# Altium footprint library adafruit.PCBLIB: 624 footprints (part 30 of 39)
Each footprint in its own frame and in the unit in brackets; x right, y up, seen from the top. Pads: shape width x height; smd on the part's side, far side on the other; paste and mask are expansions set on the pad; w line width, h text height; cw(c..) or ccw(c..) is an arc to the next point about the centre after c.
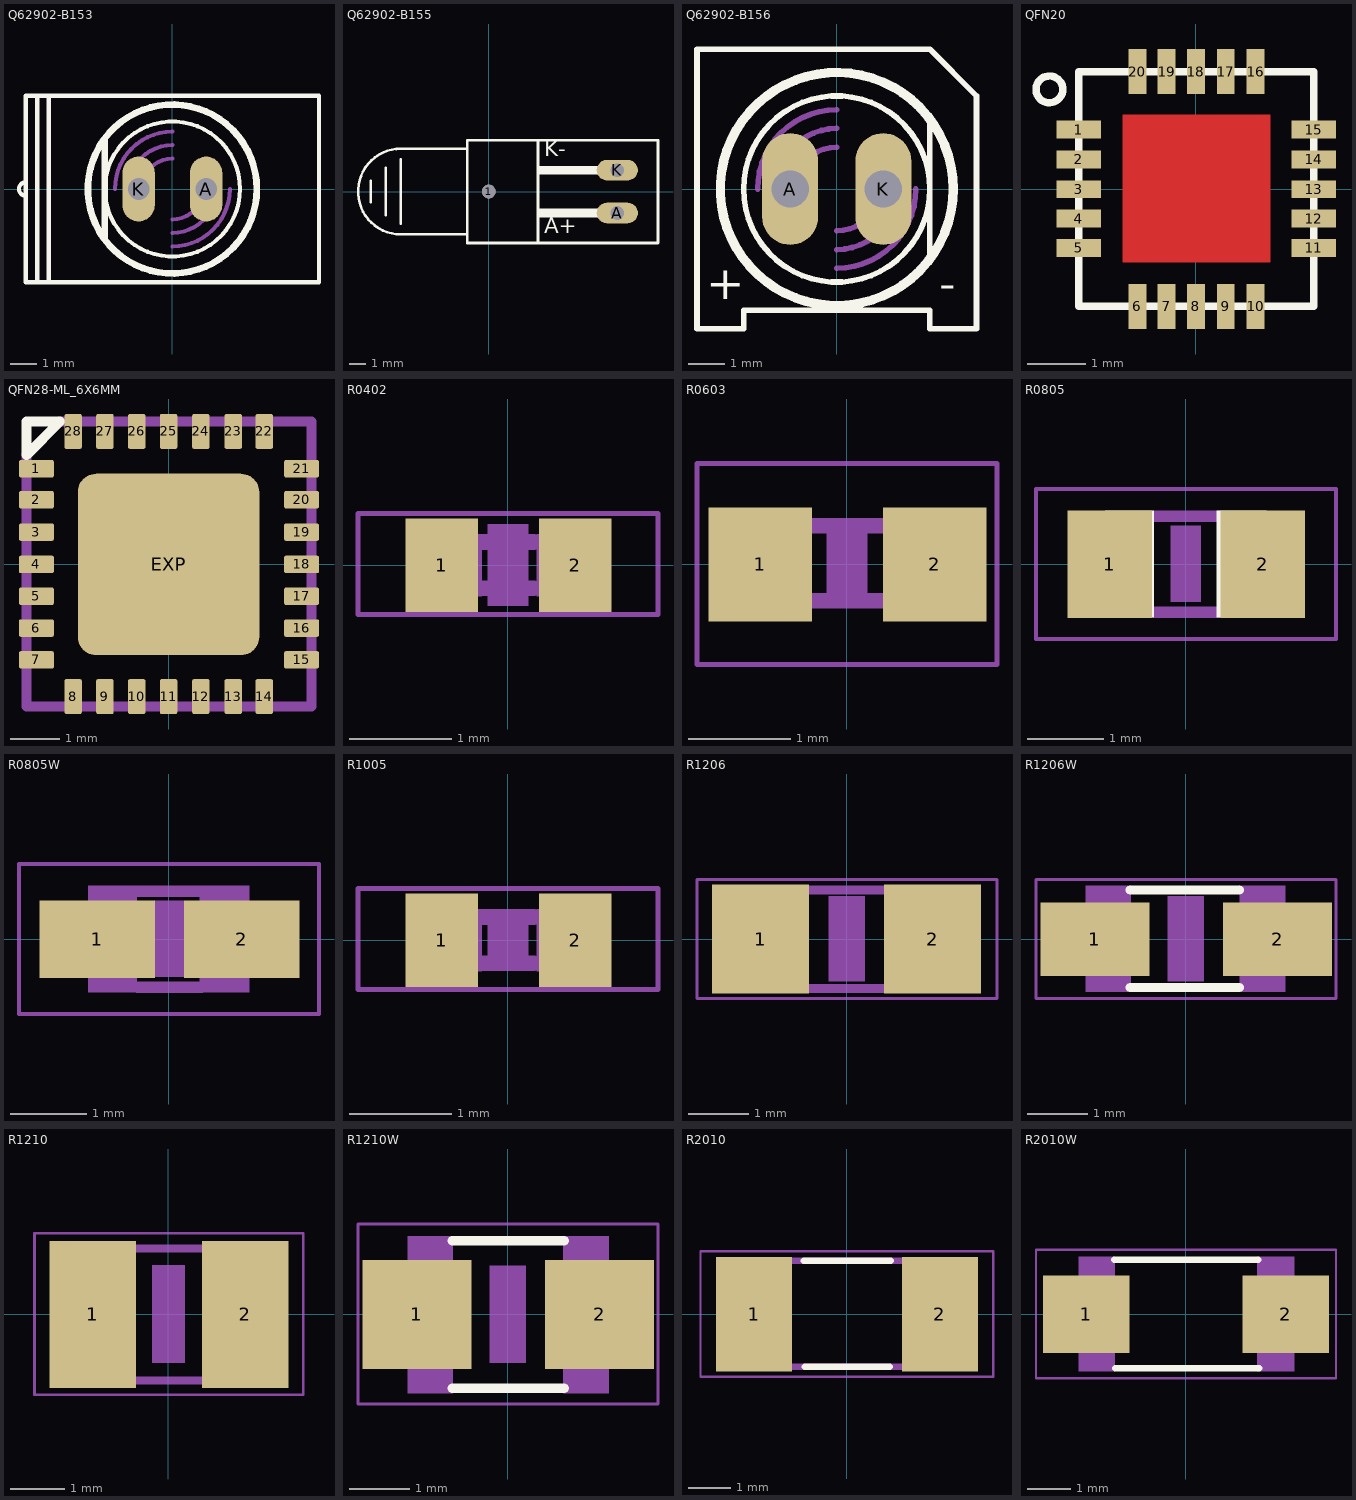
[diagram p29: the footprints below, top view; thin cyan lines are the x and y axes]

## Q62902-B153 [mil]
pads (2):
  oval 48x96 hole 32: A(50,0) K(-50,0)
Top Overlay:
  circle w6: c0,0 r100
  circle w10: c0,0 r125
  lines w6: -217,-10 cw(c-217,0) -217,10 ; -200,-138 -183,-138 ; -200,-138 -200,138 ; -200,-138 -217,-138 -217,138 -200,138 ; -200,138 -183,138 ; -183,-138 217,-138 217,138 -183,138 ; -183,-138 -183,138
  lines w10: -100,-75 -100,75
Mechanical 16:
  lines w6: -85,0 cw(c0,0) 0,85 ; -65,0 cw(c0,0) 0,65 ; -45,0 cw(c0,0) 0,45 ; 0,-85 ccw(c0,0) 85,0 ; 0,-65 ccw(c0,0) 65,0 ; 0,-45 ccw(c0,0) 45,0

## Q62902-B155 [mil]
pads (3):
  round 32 hole 32: 1(0,0)
  oval 96x48 hole 32: A(300,-50) K(300,50)
Top Overlay:
  rectangle: 115,40 265,60
  rectangle: 115,-60 265,-40
  lines w6: -275,-25 -275,25 ; -240,-55 -240,55 ; -205,-75 -205,75 ; -50,-100 -50,-120 115,-120 ; -50,-100 -205,-100 cw(c-205,0) -205,100 -50,100 ; -50,-100 -50,100 ; -50,100 -50,120 115,120 ; 115,-120 115,120 ; 115,-120 395,-120 395,120 115,120
  text "A+" at 130,-110 h62
  text "K-" at 130,70 h62

## Q62902-B156 [mil]
pads (2):
  oval 60x120 hole 40: A(-50,0) K(50,0)
Top Overlay:
  circle w6: c0,0 r100
  circle w10: c0,0 r125
  lines w6: 100,-75 100,75 ; -150,-150 -150,150 100,150 150,100 150,-150 100,-150 100,-130 -100,-130 -100,-150 -150,-150
  text "+" at -140,-130 h62
  text "-" at 110,-130 h62
Mechanical 16:
  lines w6: -85,0 cw(c0,0) 0,85 ; -65,0 cw(c0,0) 0,65 ; -45,0 cw(c0,0) 0,45 ; 0,-85 ccw(c0,0) 85,0 ; 0,-65 ccw(c0,0) 65,0 ; 0,-45 ccw(c0,0) 45,0

## QFN20 [mil]
pads (20):
  rect 30x12 smd: 1(-78.74,40) 2(-78.74,20) 3(-78.74,0) 4(-78.74,-19.68) 5(-78.74,-39.37) 11(79,-39.37) 12(79,-19.68) 13(79,0) 14(79,20) 15(79,40)
  rect 12x30 smd: 6(-39.37,-78.74) 7(-19.68,-78.74) 8(0,-78.74) 9(20,-78.74) 10(40,-78.74) 16(40,79) 17(20,79) 18(0,79) 19(-19.68,79) 20(-39.37,79)
Top Layer:
  rectangle: -49.21,-49.21 50,50
Top Overlay:
  circle w5: c-98.43,67 r9
  lines w5: -78.74,-78.74 79,-78.74 79,79 -78.74,79 -78.74,-78.74
Top Paste:
  rectangle: -47.24,16 -15.75,48
  rectangle: 16,16 48,48
  rectangle: 16,-47.24 48,-15.75
  rectangle: -47.24,-47.24 -15.75,-15.75
Top Solder:
  rectangle: -51.18,-51.18 52,52

## QFN28-ML_6X6MM [mil]
pads (29):
  rrect20% 28x14 smd: 1(-106.3,77) 2(-106.3,52) 3(-106.3,26) 4(-106.3,0) 5(-106.3,-25.59) 6(-106.3,-51.18) 7(-106.3,-76.77) 15(107,-76.77) 16(107,-51.18) 17(107,-25.59) 18(107,0) 19(107,26) 20(107,52) 21(107,77)
  rrect20% 14x28 smd: 8(-76.77,-106.3) 9(-51.18,-106.3) 10(-25.59,-106.3) 11(0,-106.3) 12(26,-106.3) 13(52,-106.3) 14(77,-106.3) 22(77,107) 23(52,107) 24(26,107) 25(0,107) 26(-25.59,107) 27(-51.18,107) 28(-76.77,107)
  rrect20% 146x146 smd: EXP(0,0)
Top Overlay:
  lines w8: -87.4,115 -87.4,115 ; -87.4,115 -114.11,115 -114.11,88 -87.4,115
Top Paste:
  rectangle: -119.76,71 -92.89,84
  rectangle: -119.76,45 -92.89,58
  rectangle: -119.76,20 -92.89,32
  rectangle: -119.76,-6.4 -92.89,7
  rectangle: -119.76,-31.99 -92.89,-19.19
  rectangle: -119.76,-57.58 -92.89,-44.78
  rectangle: -119.76,-83.17 -92.89,-70.37
  region: -70.37,-119.76 -70.37,-92.89 -83.17,-92.89 -83.17,-119.76
  region: -44.78,-119.76 -44.78,-92.89 -57.58,-92.89 -57.58,-119.76
  region: -19.19,-119.76 -19.19,-92.89 -31.99,-92.89 -31.99,-119.76
  region: 6.68,-120.04 6.68,-92.61 -6.11,-92.61 -6.11,-120.04
  region: 32.9,-119.83 32.9,-92.83 20.1,-92.83 20.1,-119.83
  region: 57.9,-119.83 57.9,-92.83 45.1,-92.83 45.1,-119.83
  region: 83.9,-119.83 83.9,-92.83 71.1,-92.83 71.1,-119.83
  region: 120,-70.37 93,-70.37 93,-83.17 120,-83.17
  region: 120,-44.78 93,-44.78 93,-57.58 120,-57.58
  region: 120,-19.19 93,-19.19 93,-31.99 120,-31.99
  region: 120,7 93,7 93,-6.4 120,-6.4
  region: 120,32 93,32 93,20 120,20
  region: 120,58 93,58 93,45 120,45
  region: 120,84 93,84 93,71 120,71
  region: 71,120 71,93 84,93 84,120
  region: 45,120 45,93 58,93 58,120
  region: 20,120 20,93 33,93 33,120
  region: -6.22,120.22 -6.22,92.78 6.78,92.78 6.78,120.22
  region: -32.09,119.93 -32.09,93.07 -19.09,93.07 -19.09,119.93
  region: -57.68,119.93 -57.68,93.07 -44.68,93.07 -44.68,119.93
  region: -83.27,119.93 -83.27,93.07 -70.27,93.07 -70.27,119.93
  rectangle: -68.33,-68.33 69,69
Top Solder:
  rectangle: -120.28,70 -92.38,84
  rectangle: -120.28,45 -92.38,59
  rectangle: -120.28,19 -92.38,33
  rectangle: -120.28,-7.17 -92.38,8
  rectangle: -120.28,-32.76 -92.38,-18.43
  rectangle: -120.28,-58.35 -92.38,-44.02
  rectangle: -120.28,-83.94 -92.38,-69.61
  region: -69.61,-120.27 -69.61,-92.38 -83.94,-92.38 -83.94,-120.27
  region: -44.02,-120.27 -44.02,-92.38 -58.35,-92.38 -58.35,-120.27
  region: -18.43,-120.27 -18.43,-92.38 -32.76,-92.38 -32.76,-120.27
  region: 7.19,-120.3 7.19,-92.35 -7.14,-92.35 -7.14,-120.3
  region: 33.17,-120.33 33.17,-92.33 18.83,-92.33 18.83,-120.33
  region: 59.17,-120.33 59.17,-92.33 44.83,-92.33 44.83,-120.33
  region: 84.17,-120.33 84.17,-92.33 69.83,-92.33 69.83,-120.33
  region: 121,-69.61 93,-69.61 93,-83.94 121,-83.94
  region: 121,-44.02 93,-44.02 93,-58.35 121,-58.35
  region: 121,-18.43 93,-18.43 93,-32.76 121,-32.76
  region: 121,8 93,8 93,-7.17 121,-7.17
  region: 121,33 93,33 93,19 121,19
  region: 121,59 93,59 93,45 121,45
  region: 121,84 93,84 93,70 121,70
  region: 70,121 70,93 84,93 84,121
  region: 45,121 45,93 59,93 59,121
  region: 19,121 19,93 33,93 33,121
  region: -6.97,120.97 -6.97,93.03 7.03,93.03 7.03,120.97
  region: -32.59,120.94 -32.59,93.06 -18.59,93.06 -18.59,120.94
  region: -58.18,120.94 -58.18,93.06 -44.18,93.06 -44.18,120.94
  region: -83.77,120.94 -83.77,93.06 -69.77,93.06 -69.77,120.94
  rectangle: -73.19,-73.19 74,74
Mechanical 16:
  lines w8: -114.11,88 -114.11,-114.11 115,-114.11 115,115 -87.4,115

## R0402 [mil]
pads (2):
  rect 28x36 smd: 1(-25.59,0) 2(26,0)
Mechanical 6:
  rectangle: -7.87,-15.75 8,16
Mechanical 16:
  rectangle: -21.81,-12 -10,12
  rectangle: 11,-12 22,12
  lines w6: -9.65,-8.82 10,-8.82 ; -9.65,9 10,9
Mechanical 27:
  lines w2: -57.99,-19.02 58,-19.02 58,20 -57.99,20 -57.99,-19.02

## R0603 [mil]
pads (2):
  rect 40x44 smd: 1(-33.46,0) 2(34,0)
Mechanical 6:
  rectangle: -7.87,-15.75 8,16
Mechanical 16:
  rectangle: 17,-17 33,17
  rectangle: -33,-17 -17,17
  lines w6: -17.01,-14.02 18,-14.02 ; -17.01,15 18,15
Mechanical 27:
  lines w2: -57.99,-38.7 58,-38.7 58,39 -57.99,39 -57.99,-38.7

## R0805 [mil]
pads (2):
  rect 44x56 smd: 1(-39.37,0) 2(40,0)
Top Overlay:
  rectangle: 16,-27.5 42,28
  rectangle: -42,-27.5 -16.41,28
Mechanical 6:
  rectangle: -7.87,-19.69 8,20
Mechanical 16:
  lines w6: -16.14,-25 17,-25 ; -16.14,25 17,25
Mechanical 27:
  lines w2: -77.68,-38.7 78,-38.7 78,39 -77.68,39 -77.68,-38.7

## R0805W [mil]
pads (2):
  rect 60x40 smd: 1(-37.01,0) 2(38,0)
Mechanical 6:
  rectangle: -7.87,-19.69 8,20
Mechanical 16:
  rectangle: 16,-27.5 42,28
  rectangle: -42,-27.5 -16.41,28
  lines w6: -16.14,-25 17,-25 ; -16.14,25 17,25
Mechanical 27:
  lines w2: -77.68,-38.7 78,-38.7 78,39 -77.68,39 -77.68,-38.7

## R1005 [mil]
pads (2):
  rect 28x36 smd: 1(-25.59,0) 2(26,0)
Mechanical 6:
  rectangle: -7.87,-11.81 8,12
Mechanical 16:
  rectangle: -21.81,-12 -10,12
  rectangle: 11,-12 22,12
  lines w6: -9.65,-8.82 10,-8.82 ; -9.65,9 10,9
Mechanical 27:
  lines w2: -57.99,-19.02 58,-19.02 58,20 -57.99,20 -57.99,-19.02

## R1206 [mil]
pads (2):
  rect 63x71 smd: 1(-55.98,0) 2(56,0)
Mechanical 6:
  rectangle: -11.81,-27.56 12,28
Mechanical 16:
  rectangle: -66.5,-34.5 -37.5,35
  rectangle: 38,-34.5 67,35
  lines w6: -38,-32 38,-32 ; -38,32 38,32
Mechanical 27:
  lines w2: -97.36,-38.7 98,-38.7 98,39 -97.36,39 -97.36,-38.7

## R1206W [mil]
pads (2):
  rect 71x48 smd: 1(-59.02,0) 2(60,0)
Top Overlay:
  lines w6: -35.94,-31.5 35,-31.5 ; -35.94,32 35,32
Mechanical 6:
  rectangle: -11.81,-27.56 12,28
Mechanical 16:
  rectangle: -65,-34.5 -35.47,35
  rectangle: 35,-34.5 65,35
Mechanical 27:
  lines w2: -97.36,-38.7 98,-38.7 98,39 -97.36,39 -97.36,-38.7

## R1210 [mil]
pads (2):
  rect 63x107 smd: 1(-55.12,0) 2(56,0)
Mechanical 6:
  rectangle: -11.81,-35.43 12,36
Mechanical 16:
  rectangle: -65,-51.5 -35.47,51
  rectangle: 36,-51.5 66,51
  lines w6: -35.94,-47.99 37,-47.99 ; -35.94,48 37,48
Mechanical 27:
  lines w2: -97.36,-58.39 98,-58.39 98,59 -97.36,59 -97.36,-58.39

## R1210W [mil]
pads (2):
  rect 71x71 smd: 1(-59.02,0) 2(60,0)
Top Overlay:
  lines w6: -35.94,-47.99 37,-47.99 ; -35.94,48 37,48
Mechanical 6:
  rectangle: -11.81,-31.5 12,32
Mechanical 16:
  rectangle: -65,-51.5 -35.47,51
  rectangle: 36,-51.5 66,51
Mechanical 27:
  lines w2: -97.36,-58.39 98,-58.39 98,59 -97.36,59 -97.36,-58.39

## R2010 [mil]
pads (2):
  rect 71x107 smd: 1(-86.61,0) 2(87,0)
Top Overlay:
  lines w6: -40.43,50 41,50 ; -39.45,-49.02 40,-49.02
Mechanical 16:
  rectangle: -98,-52 -64.54,53
  rectangle: 65,-52 99,53
  lines w6: -65.43,50 66,50 ; -64.45,-49.02 67,-49.02
Mechanical 27:
  lines w2: -136.73,-58.39 137,-58.39 137,59 -136.73,59 -136.73,-58.39

## R2010W [mil]
pads (2):
  rect 79x71 smd: 1(-90.98,0) 2(91,0)
Top Overlay:
  lines w6: -65.43,50 66,50 ; -64.45,-49.02 67,-49.02
Mechanical 16:
  rectangle: -98,-52 -64.54,53
  rectangle: 65,-52 99,53
Mechanical 27:
  lines w2: -136.73,-58.39 137,-58.39 137,59 -136.73,59 -136.73,-58.39